# Altium footprint library FPC_8.PcbLib: 1 footprints
Each footprint in its own frame and in the unit in brackets; x right, y up, seen from the top. Pads: shape width x height; smd on the part's side, far side on the other; paste and mask are expansions set on the pad; w line width, h text height; cw(c..) or ccw(c..) is an arc to the next point about the centre after c.
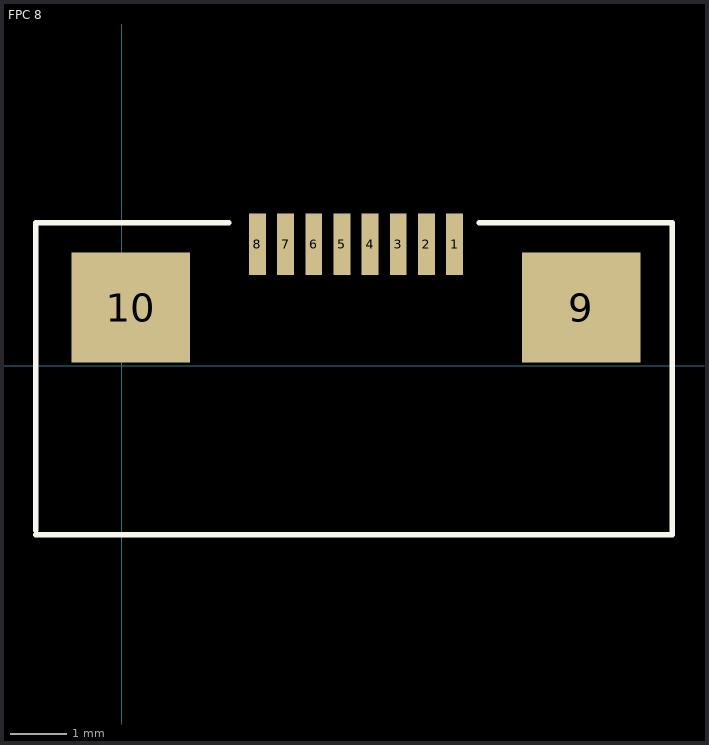
[diagram p0: the footprint, top view; thin cyan lines are the x and y axes]

## FPC 8 [mm]
pads (10):
  rect 0.3x1.1 smd: 1(5.913,2.159) 2(5.413,2.159) 3(4.913,2.159) 4(4.413,2.159) 5(3.913,2.159) 6(3.413,2.159) 7(2.913,2.159) 8(2.413,2.159)
  rect 2.1x1.95 smd: 9(8.163,1.034) 10(0.163,1.034)
Top Overlay:
  lines w0.1: -1.524,-3 9.779,-3 9.779,2.54 6.35,2.54 ; -1.524,-2.921 -1.524,2.54 1.143,2.54 1.905,2.54